# EAGLE library part CONNECTOR-7_?_* (library HyTechDevices)
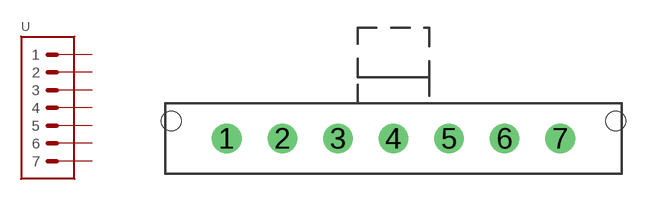
[diagram p40: symbol with the pads of MOLEX_MICROFIT_PTH_VERTICAL_07_SINGLE; footprint MOLEX_MICROFIT_PTH_VERTICAL_07_SINGLE]

Designator prefix -

## CONNECTOR-7__  [MOLEX_MICROFIT_PTH_VERTICAL_07_SINGLE]
1  1  pas
2  2  pas
3  3  pas
4  4  pas
5  5  pas
6  6  pas
7  7  pas

## Footprint MOLEX_MICROFIT_PTH_VERTICAL_07_SINGLE (pad centres in mm)
7 Pin Micro-Fit Vertical Header, Through-Hole, Dual Row Part <https://www.molex.com/molex/products/part-detail/pcb_headers/0436500716> Footprint <https://tools.molex.com/pdm_docs/sd/436500716_sd.pdf> Plug Size <https://www.molex.com/pdm_docs/sd/430251400_sd.pdf>
drill 1.067: 1 -8.992,0; 2 -5.994,0; 3 -2.997,0; 4 0,0; 5 2.997,0; 6 5.994,0; 7 8.992,0
hole 1.067 at 11.989,0.94
hole 1.067 at -11.989,0.94